# EAGLE library part 625026230621 (library Wuerth_Elektronik_eiCan_Box_Header_&_IDC_Connectors_v1.2)
WR-BHD 2.00mm Male SMT Box Header With Lever, 26 pins
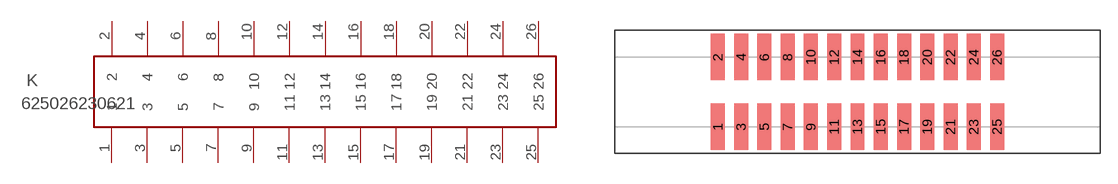
[diagram p60: symbol with the pads of 625026230621; footprint 625026230621]

Designator prefix K

## 625026230621  [625026230621]
1  1  pas
2  2  pas
3  3  pas
4  4  pas
5  5  pas
6  6  pas
7  7  pas
8  8  pas
9  9  pas
10  10  pas
11  11  pas
12  12  pas
13  13  pas
14  14  pas
15  15  pas
16  16  pas
17  17  pas
18  18  pas
19  19  pas
20  20  pas
21  21  pas
22  22  pas
23  23  pas
24  24  pas
25  25  pas
26  26  pas

## Footprint 625026230621 (pad centres in mm)
WR-BHD-2.00mm Male SMT Box Header With Lever,26 pins
smd 1.2 x 4: 1 -12,-3; 2 -12,3; 3 -10,-3; 4 -10,3; 5 -8,-3; 6 -8,3; 7 -6,-3; 8 -6,3; 9 -4,-3; 10 -4,3; 11 -2,-3; 12 -2,3; 13 0,-3; 14 0,3; 15 2,-3; 16 2,3; 17 4,-3; 18 4,3; 19 6,-3; 20 6,3; 21 8,-3; 22 8,3; 23 10,-3; 24 10,3; 25 12,-3; 26 12,3